# Altium schematic symbol library Schlib1.SchLib: 8 symbols
Pins are listed as number, name and electrical type; pins without a type are passive.

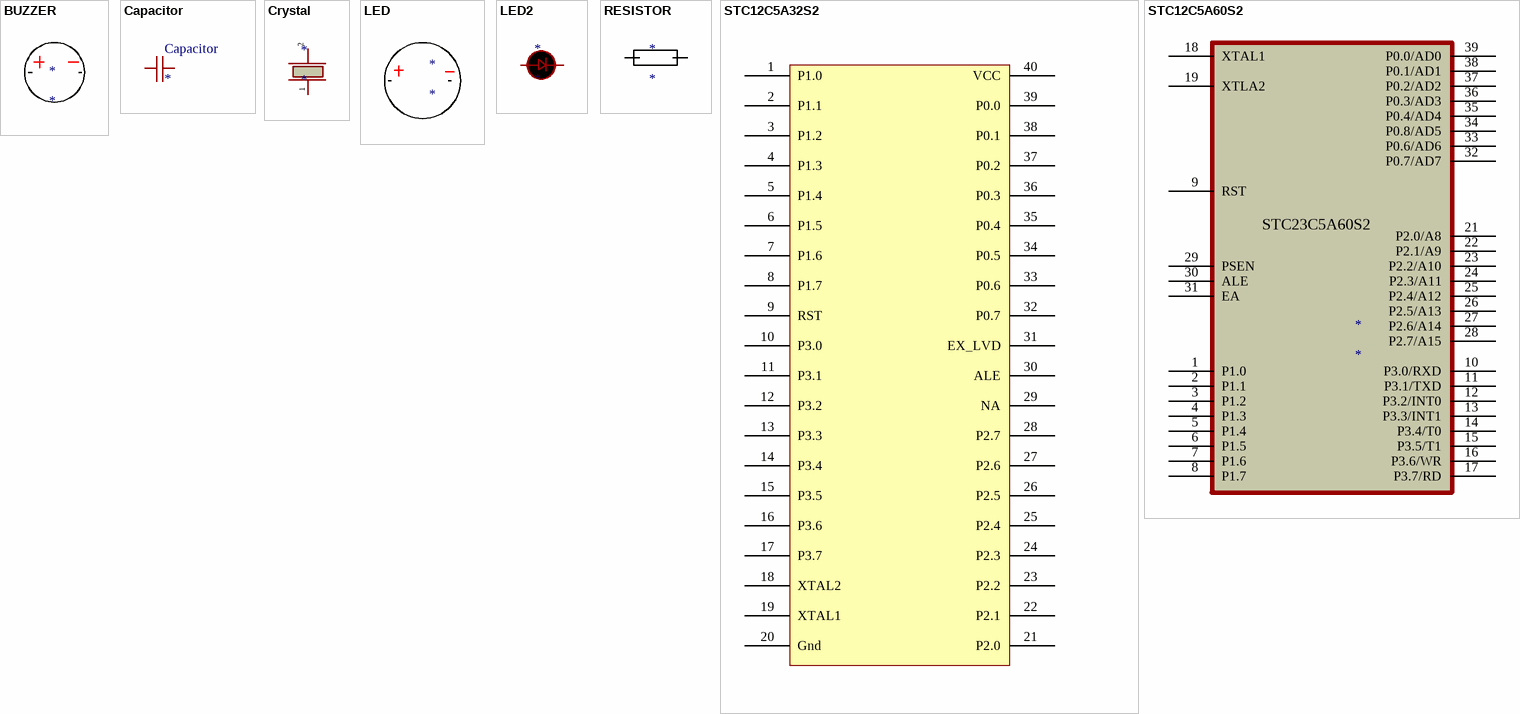
[diagram p0: symbols BUZZER to STC12C5A60S2]

## BUZZER
designator *
footprint BUZZER
pins: 1, 2

## Capacitor
designator Capacitor
footprint Capacitor
pins: Capacitor 1, Capacitor 1

## Crystal
designator *
pins: 1 2, 2

## LED
designator *
footprint LED
pins: 1, 2, ?1

## LED2
designator *
footprint LED2
pins: 1, 2

## RESISTOR
designator *
footprint RESISTOR
pins: 1, 2

## STC12C5A32S2
designator *
footprint STC12C5A60S2
pins: 1 P1.0 (oe), 2 P1.1 (oe), 3 P1.2 (oe), 4 P1.3 (oe), 5 P1.4 (oe), 6 P1.5 (oe), 7 P1.6 (oe), 8 P1.7 (oe), 9 RST (oe), 10 P3.0 (oe), 11 P3.1 (oe), 12 P3.2 (oe), 13 P3.3 (oe), 14 P3.4 (oe), 15 P3.5 (oe), 16 P3.6 (oe), 17 P3.7 (oe), 18 XTAL2 (oe), 19 XTAL1 (oe), 20 Gnd (oe), 21 P2.0, 22 P2.1, 23 P2.2, 24 P2.3, 25 P2.4, 26 P2.5, 27 P2.6, 28 P2.7, 29 NA, 30 ALE, 31 EX_LVD, 32 P0.7, 33 P0.6, 34 P0.5, 35 P0.4, 36 P0.3, 37 P0.2, 38 P0.1, 39 P0.0, 40 VCC

## STC12C5A60S2
designator *
footprint STC12C5A60S2
pins: 1 P1.0, 2 P1.1, 3 P1.2, 4 P1.3, 5 P1.4, 6 P1.5, 7 P1.6, 8 P1.7, 9 RST, 10 P3.0/RXD, 11 P3.1/TXD, 12 P3.2/INT0, 13 P3.3/INT1, 14 P3.4/T0, 15 P3.5/T1, 16 P3.6/WR, 17 P3.7/RD, 18 XTAL1, 19 XTLA2, 21 P2.0/A8, 22 P2.1/A9, 23 P2.2/A10, 24 P2.3/A11, 25 P2.4/A12, 26 P2.5/A13, 27 P2.6/A14, 28 P2.7/A15, 29 PSEN, 30 ALE, 31 EA, 32 P0.7/AD7, 33 P0.6/AD6, 34 P0.8/AD5, 35 P0.4/AD4, 36 P0.3/AD3, 37 P0.2/AD2, 38 P0.1/AD1, 39 P0.0/AD0
text: STC23C5A60S2